# Altium footprint library QFN.PcbLib: 27 footprints (part 1 of 2)
Each footprint in its own frame and in the unit in brackets; x right, y up, seen from the top. Pads: shape width x height; smd on the part's side, far side on the other; paste and mask are expansions set on the pad; w line width, h text height; cw(c..) or ccw(c..) is an arc to the next point about the centre after c.
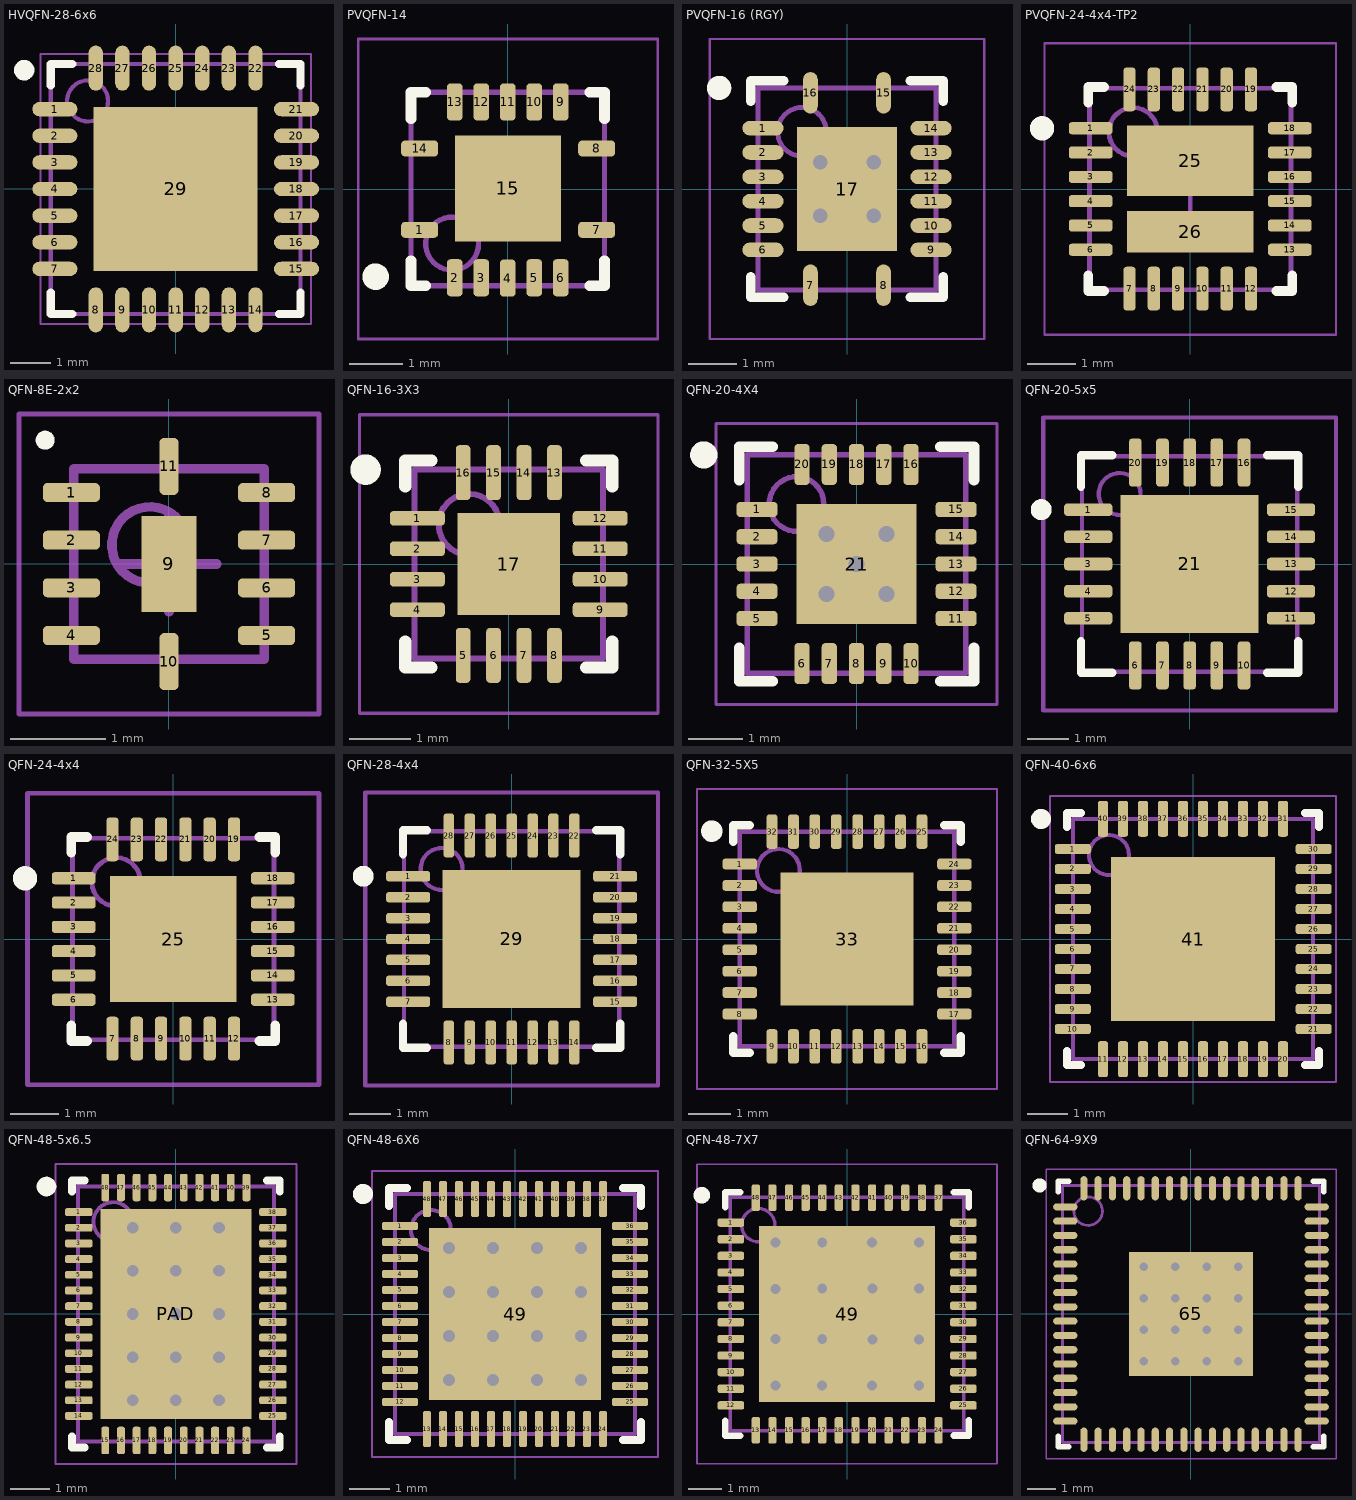
[diagram p0: the footprints below, top view; thin cyan lines are the x and y axes]

## HVQFN-28-6x6 [mm] "HVQFN28, 28-Leads, Body 6,00x6,00mm, Pitch 0,65mm, Thermal Pad 4,00x4,00mm, IPC Medium Density"
height 1
pads (29):
  oval 1.1x0.35 smd mask+0.05: 1(-2.95,1.95) 2(-2.95,1.3) 3(-2.95,0.65) 4(-2.95,0) 5(-2.95,-0.65) 6(-2.95,-1.3) 7(-2.95,-1.95) 15(2.95,-1.95) 16(2.95,-1.3) 17(2.95,-0.65) 18(2.95,0) 19(2.95,0.65) 20(2.95,1.3) 21(2.95,1.95)
  oval 0.35x1.1 smd mask+0.05: 8(-1.95,-2.95) 9(-1.3,-2.95) 10(-0.65,-2.95) 11(0,-2.95) 12(0.65,-2.95) 13(1.3,-2.95) 14(1.95,-2.95) 22(1.95,2.95) 23(1.3,2.95) 24(0.65,2.95) 25(0,2.95) 26(-0.65,2.95) 27(-1.3,2.95) 28(-1.95,2.95)
  rect 4x4 smd mask+0.05: 29(0,0)
Top Overlay:
  circle w0.25: c-3.7,2.9 r0.125
  lines w0.2: -3.05,-2.525 -3.05,-3.05 -2.525,-3.05 ; -3.05,2.525 -3.05,3.05 -2.525,3.05 ; 2.525,-3.05 3.05,-3.05 3.05,-2.525 ; 2.525,3.05 3.05,3.05 3.05,2.525
Mechanical 13:
  circle w0.1: c-2.15,2.15 r0.5
  lines w0.1: -3.05,-3.05 3.05,-3.05 3.05,3.05 -3.05,3.05 -3.05,-3.05
Mechanical 15:
  lines w0.05: -3.3,-3.3 3.3,-3.3 3.3,3.3 -3.3,3.3 -3.3,-3.3
  lines w0.1: -0.5,0 0.5,0 ; 0,-0.5 0,0.5
3D body "HVQFN28-6x6.step": height 1, standoff 0, extent -3.05,-3.05 3.05,3.05

## PVQFN-14 [mm] "PVQFN, 14-Leads, Body 3,50x3,50mm, Pitch 0,50mm, Thermal Pad 2,00x2,00mm, IPC Medium Density"
height 1
pads (15):
  rrect50% 0.7x0.3 smd mask+0.05: 1(-1.664,-0.771) 7(1.678,-0.771) 8(1.678,0.765) 14(-1.662,0.765)
  rrect50% 0.3x0.7 smd mask+0.05: 2(-1,-1.675) 3(-0.5,-1.675) 4(0,-1.681) 5(0.5,-1.675) 6(1,-1.675) 9(1,1.643) 10(0.5,1.643) 11(0,1.643) 12(-0.5,1.643) 13(-1,1.643)
  rect 2x2 smd mask+0.05: 15(0.001,0.014)
Top Overlay:
  circle w0.25: c-2.492,-1.654 r0.125
  lines w0.2: -1.825,-1.357 -1.825,-1.825 -1.55,-1.825 ; -1.825,1.323 -1.825,1.825 -1.55,1.825 ; 1.55,-1.825 1.825,-1.825 1.825,-1.357 ; 1.55,1.825 1.825,1.825 1.825,1.323
Mechanical 13:
  circle w0.1: c-1.05,-1.03 r0.5
  lines w0.1: -1.825,-1.825 -1.825,1.825 1.825,1.825 1.825,-1.825 -1.825,-1.825
Mechanical 15:
  lines w0.05: -2.82,-2.83 -2.82,2.83 2.83,2.83 2.83,-2.83 -2.82,-2.83
3D body "PVQFN-14.step": height 1, standoff 0, extent -1.825,-1.825 1.825,1.825

## PVQFN-16 (RGY) [mm] "PVQFN, 16-Leads, Body 3.50x4.00mm, Pitch 1.50mm/0.50mm, Thermal Pad 2.05x2.55mm, IPC Medium Density"
height 1
pads (17):
  oval 0.85x0.3 smd mask+0.05: 1(-1.725,1.25) 2(-1.725,0.75) 3(-1.725,0.25) 4(-1.725,-0.25) 5(-1.725,-0.75) 6(-1.725,-1.25) 9(1.725,-1.25) 10(1.725,-0.75) 11(1.725,-0.25) 12(1.725,0.25) 13(1.725,0.75) 14(1.725,1.25)
  oval 0.3x0.85 smd mask+0.05: 7(-0.75,-1.975) 8(0.75,-1.975) 15(0.75,1.975) 16(-0.75,1.975)
  rect 2.05x2.55 smd mask+0.05: 17(0,0)
via 0.55,-0.55 diameter 0.7 hole 0.3
via -0.55,-0.55 diameter 0.7 hole 0.3
via 0.55,0.55 diameter 0.7 hole 0.3
via -0.55,0.55 diameter 0.7 hole 0.3
Top Overlay:
  circle w0.25: c-2.625,2.075 r0.125
  lines w0.2: -1.975,-1.8 -1.975,-2.225 -1.3,-2.225 ; -1.975,1.8 -1.975,2.225 -1.3,2.225 ; 1.3,-2.225 1.975,-2.225 1.975,-1.8 ; 1.3,2.225 1.975,2.225 1.975,1.8
Mechanical 13:
  circle w0.1: c-0.925,1.175 r0.5
  lines w0.1: -1.825,-2.075 1.825,-2.075 1.825,2.075 -1.825,2.075 -1.825,-2.075
Mechanical 15:
  lines w0.05: -2.82,-3.08 2.82,-3.08 2.82,3.08 -2.82,3.08 -2.82,-3.08
  lines w0.1: -0.5,0 0.5,0 ; 0,-0.5 0,0.5
3D body "PVQFN-16.step": height 1, standoff 0, extent -1.875,-2.125 1.875,2.125

## PVQFN-24-4x4-TP2 [mm] "24-Pin Plastic Quad Flat No-Lead 0.5 mm Pitch, IPC Low Density, Two thermal pads"
height 0.8
pads (26):
  rrect50% 0.9x0.25 smd mask+0.05: 1(-2.05,1.25) 2(-2.05,0.75) 3(-2.05,0.25) 4(-2.05,-0.25) 5(-2.05,-0.75) 6(-2.05,-1.25) 13(2.05,-1.25) 14(2.05,-0.75) 15(2.05,-0.25) 16(2.05,0.25) 17(2.05,0.75) 18(2.05,1.25)
  rrect50% 0.25x0.9 smd mask+0.05: 7(-1.25,-2.05) 8(-0.75,-2.05) 9(-0.25,-2.05) 10(0.25,-2.05) 11(0.75,-2.05) 12(1.25,-2.05) 19(1.25,2.05) 20(0.75,2.05) 21(0.25,2.05) 22(-0.25,2.05) 23(-0.75,2.05) 24(-1.25,2.05)
  rect 2.6x1.45 smd mask+0.05: 25(0,0.578)
  rect 2.6x0.85 smd mask+0.05: 26(-0.002,-0.881)
Top Overlay:
  circle w0.25: c-3.05,1.25 r0.125
  lines w0.2: -2.1,-1.775 -2.1,-2.1 -1.775,-2.1 ; -2.1,1.775 -2.1,2.1 -1.775,2.1 ; 1.775,-2.1 2.1,-2.1 2.1,-1.775 ; 1.775,2.1 2.1,2.1 2.1,1.775
Mechanical 13:
  circle w0.1: c-1.175,1.175 r0.5
  lines w0.1: -2.075,-2.075 2.075,-2.075 2.075,2.075 -2.075,2.075 -2.075,-2.075
Mechanical 15:
  lines w0.05: -3,-3 3,-3 3,3 -3,3 -3,-3
  lines w0.1: -0.5,0 0.5,0 ; 0,-0.5 0,0.5
3D body "User Library-QFN24-0_5.STEP": height 1, standoff 0, extent -2,-2 2,2

## QFN-8E-2x2 [mm] "QFN, 8-Leads, Body 2.00x2.00mm, Pitch 0.50mm, Thermal Pad 0.58x1.01mm, IPC Medium Density"
height 0.9
pads (11):
  rrect50% 0.6x0.2 smd mask+0.05: 1(-1.025,0.75) 2(-1.025,0.25) 3(-1.025,-0.25) 4(-1.025,-0.75) 5(1.025,-0.75) 6(1.025,-0.25) 7(1.025,0.25) 8(1.025,0.75)
  rect 0.58x1.01 smd mask+0.05: 9(0,0)
  rrect50% 0.2x0.6 smd mask+0.05: 10(0,-1.025) 11(0,1.025)
Top Overlay:
  circle w0.1: c-1.3,1.3 r0.05
Mechanical 13:
  circle w0.1: c-0.2,0.2 r0.4
  lines w0.1: -1,-1 1,-1 1,1 -1,1 -1,-1
Mechanical 15:
  lines w0.05: -1.575,-1.575 1.575,-1.575 1.575,1.575 -1.575,1.575 -1.575,-1.575
  lines w0.1: -0.5,0 0.5,0 ; 0,-0.5 0,0.5
3D body "QFN-8E-2x2.step": height 0.9, standoff 0, extent -1.01,-1.01 1.01,1.01

## QFN-16-3X3 [mm] "QFN, 16-Leads, Body 3,00x3,00mm, Pitch 0,50mm, Thermal Pad 1,68x1,68mm, IPC Low Density"
height 1
pads (17):
  rrect50% 0.9x0.24 smd mask+0.05: 1(-1.5,0.75) 2(-1.5,0.25) 3(-1.5,-0.25) 4(-1.5,-0.75) 9(1.5,-0.75) 10(1.5,-0.25) 11(1.5,0.25) 12(1.5,0.75)
  rrect50% 0.24x0.9 smd mask+0.05: 5(-0.75,-1.5) 6(-0.25,-1.5) 7(0.25,-1.5) 8(0.75,-1.5) 13(0.75,1.5) 14(0.25,1.5) 15(-0.25,1.5) 16(-0.75,1.5)
  rect 1.68x1.68 smd mask+0.05: 17(0,0)
Top Overlay:
  circle w0.25: c-2.35,1.55 r0.125
  lines w0.2: -1.7,-1.27 -1.7,-1.7 -1.27,-1.7 ; -1.7,1.27 -1.7,1.7 -1.27,1.7 ; 1.27,-1.7 1.7,-1.7 1.7,-1.27 ; 1.27,1.7 1.7,1.7 1.7,1.27
Mechanical 13:
  circle w0.1: c-0.65,0.65 r0.5
  lines w0.1: -1.55,-1.55 1.55,-1.55 1.55,1.55 -1.55,1.55 -1.55,-1.55
Mechanical 15:
  lines w0.05: -2.45,-2.45 2.45,-2.45 2.45,2.45 -2.45,2.45 -2.45,-2.45
  lines w0.1: -0.5,0 0.5,0 ; 0,-0.5 0,0.5
3D body "QFN-16-3X3_1.step": height 1, standoff 0, extent -1.63,-1.63 1.63,1.63

## QFN-20-4X4 [mm] "QFN, 20-Leads, Body 4.00x4.00mm, Pitch 0.50mm, Thermal Pad 2.20x2.20mm, IPC Medium Density"
height 0.9
pads (21):
  rrect50% 0.75x0.28 smd mask+0.05: 1(-1.825,1) 2(-1.825,0.5) 3(-1.825,0) 4(-1.825,-0.5) 5(-1.825,-1) 11(1.825,-1) 12(1.825,-0.5) 13(1.825,0) 14(1.825,0.5) 15(1.825,1)
  rrect50% 0.28x0.75 smd mask+0.05: 6(-1,-1.825) 7(-0.5,-1.825) 8(0,-1.825) 9(0.5,-1.825) 10(1,-1.825) 16(1,1.825) 17(0.5,1.825) 18(0,1.825) 19(-0.5,1.825) 20(-1,1.825)
  rect 2.2x2.2 smd mask+0.05: 21(0,0)
via 0,0 diameter 0.6 hole 0.3
via 0.55,-0.55 diameter 0.6 hole 0.3
via -0.55,-0.55 diameter 0.6 hole 0.3
via 0.55,0.55 diameter 0.6 hole 0.3
via -0.55,0.55 diameter 0.6 hole 0.3
Top Overlay:
  circle w0.25: c-2.8,2 r0.125
  lines w0.2: -2.15,-1.54 -2.15,-2.15 -1.54,-2.15 ; -2.15,1.54 -2.15,2.15 -1.54,2.15 ; 1.54,-2.15 2.15,-2.15 2.15,-1.54 ; 1.54,2.15 2.15,2.15 2.15,1.54
Mechanical 13:
  circle w0.1: c-1.1,1.1 r0.5
  lines w0.1: -2,-2 -2,2 2,2 2,-2 -2,-2
Mechanical 15:
  lines w0.05: -2.575,-2.575 -2.575,2.575 2.575,2.575 2.575,-2.575 -2.575,-2.575
  lines w0.1: -0.5,0 0.5,0 ; 0,-0.5 0,0.5
3D body "QFN-20-4X4.step": height 0.9, standoff 0, extent -2.05,-2.05 2.05,2.05

## QFN-20-5x5 [mm] "20-Pin Plastic Quad Flat No-Lead 0.65 mm Pitch, IPC Low Density"
height 1
pads (21):
  rrect50% 1.15x0.3 smd mask+0.05: 1(-2.425,1.3) 2(-2.425,0.65) 3(-2.425,0) 4(-2.425,-0.65) 5(-2.425,-1.3) 11(2.425,-1.3) 12(2.425,-0.65) 13(2.425,0) 14(2.425,0.65) 15(2.425,1.3)
  rrect50% 0.3x1.15 smd mask+0.05: 6(-1.3,-2.425) 7(-0.65,-2.425) 8(0,-2.425) 9(0.65,-2.425) 10(1.3,-2.425) 16(1.3,2.425) 17(0.65,2.425) 18(0,2.425) 19(-0.65,2.425) 20(-1.3,2.425)
  rect 3.3x3.3 smd mask+0.05: 21(0,0)
Top Overlay:
  circle w0.25: c-3.55,1.3 r0.125
  lines w0.2: -2.6,-1.85 -2.6,-2.6 -1.85,-2.6 ; -2.6,1.85 -2.6,2.6 -1.85,2.6 ; 1.85,-2.6 2.6,-2.6 2.6,-1.85 ; 1.85,2.6 2.6,2.6 2.6,1.85
Mechanical 13:
  circle w0.1: c-1.675,1.675 r0.5
  lines w0.1: -2.575,-2.575 -2.575,2.575 2.575,2.575 2.575,-2.575 -2.575,-2.575
Mechanical 15:
  lines w0.1: -0.5,0 0.5,0 ; 0,-0.5 0,0.5 ; -3.5,-3.5 -3.5,3.5 3.5,3.5 3.5,-3.5 -3.5,-3.5
3D body "User Library-QFN-20 5x5x0_9mm.step": height 0.89, standoff -0.01, extent -2.51,-2.51 2.51,2.51

## QFN-24-4x4 [mm] "24-Pin Plastic Quad Flat No-Lead 0.5 mm Pitch, IPC Low Density"
height 0.8
pads (25):
  rrect50% 0.9x0.25 smd mask+0.05: 1(-2.05,1.25) 2(-2.05,0.75) 3(-2.05,0.25) 4(-2.05,-0.25) 5(-2.05,-0.75) 6(-2.05,-1.25) 13(2.05,-1.25) 14(2.05,-0.75) 15(2.05,-0.25) 16(2.05,0.25) 17(2.05,0.75) 18(2.05,1.25)
  rrect50% 0.25x0.9 smd mask+0.05: 7(-1.25,-2.05) 8(-0.75,-2.05) 9(-0.25,-2.05) 10(0.25,-2.05) 11(0.75,-2.05) 12(1.25,-2.05) 19(1.25,2.05) 20(0.75,2.05) 21(0.25,2.05) 22(-0.25,2.05) 23(-0.75,2.05) 24(-1.25,2.05)
  rect 2.6x2.6 smd mask+0.05: 25(0,0)
Top Overlay:
  circle w0.25: c-3.05,1.25 r0.125
  lines w0.2: -2.1,-1.775 -2.1,-2.1 -1.775,-2.1 ; -2.1,1.775 -2.1,2.1 -1.775,2.1 ; 1.775,-2.1 2.1,-2.1 2.1,-1.775 ; 1.775,2.1 2.1,2.1 2.1,1.775
Mechanical 13:
  circle w0.1: c-1.175,1.175 r0.5
  lines w0.1: -2.075,-2.075 2.075,-2.075 2.075,2.075 -2.075,2.075 -2.075,-2.075
Mechanical 15:
  lines w0.1: -0.5,0 0.5,0 ; 0,-0.5 0,0.5 ; -3,-3 3,-3 3,3 -3,3 -3,-3
3D body "User Library-QFN24-0_5.STEP": height 1, standoff 0, extent -2,-2 2,2

## QFN-28-4x4 [mm] "28-Pin Plastic Quad Flat No-Lead 0.5 mm Pitch, IPC Low Density"
height 1
pads (29):
  rrect50% 1.05x0.25 smd mask+0.05: 1(-2.475,1.5) 2(-2.475,1) 3(-2.475,0.5) 4(-2.475,0) 5(-2.475,-0.5) 6(-2.475,-1) 7(-2.475,-1.5) 15(2.475,-1.5) 16(2.475,-1) 17(2.475,-0.5) 18(2.475,0) 19(2.475,0.5) 20(2.475,1) 21(2.475,1.5)
  rrect50% 0.25x1.05 smd mask+0.05: 8(-1.5,-2.475) 9(-1,-2.475) 10(-0.5,-2.475) 11(0,-2.475) 12(0.5,-2.475) 13(1,-2.475) 14(1.5,-2.475) 22(1.5,2.475) 23(1,2.475) 24(0.5,2.475) 25(0,2.475) 26(-0.5,2.475) 27(-1,2.475) 28(-1.5,2.475)
  rect 3.3x3.3 smd mask+0.05: 29(0,0)
Top Overlay:
  circle w0.25: c-3.55,1.5 r0.125
  lines w0.2: -2.6,-2.025 -2.6,-2.6 -2.025,-2.6 ; -2.6,2.025 -2.6,2.6 -2.025,2.6 ; 2.025,-2.6 2.6,-2.6 2.6,-2.025 ; 2.025,2.6 2.6,2.6 2.6,2.025
Mechanical 13:
  circle w0.1: c-1.675,1.675 r0.5
  lines w0.1: -2.575,-2.575 -2.575,2.575 2.575,2.575 2.575,-2.575 -2.575,-2.575
Mechanical 15:
  lines w0.1: -0.5,0 0.5,0 ; 0,-0.5 0,0.5 ; -3.5,-3.5 -3.5,3.5 3.5,3.5 3.5,-3.5 -3.5,-3.5
3D body "User Library-QFN28-0_5.STEP": height 1, standoff 0, extent -2.5,-2.5 2.5,2.5

## QFN-32-5X5 [mm]
height 0.9
pads (33):
  rrect50% 0.8x0.25 smd mask+0.05: 1(-2.502,1.75) 2(-2.502,1.25) 3(-2.502,0.75) 4(-2.502,0.25) 5(-2.502,-0.25) 6(-2.502,-0.75) 7(-2.502,-1.25) 8(-2.502,-1.75) 17(2.505,-1.75) 18(2.505,-1.25) 19(2.505,-0.75) 20(2.505,-0.25) 21(2.505,0.25) 22(2.505,0.75) 23(2.505,1.25) 24(2.505,1.75)
  rrect50% 0.25x0.8 smd mask+0.05: 9(-1.75,-2.505) 10(-1.25,-2.505) 11(-0.75,-2.505) 12(-0.25,-2.505) 13(0.25,-2.505) 14(0.75,-2.505) 15(1.25,-2.505) 16(1.75,-2.505) 25(1.75,2.505) 26(1.25,2.505) 27(0.75,2.505) 28(0.25,2.505) 29(-0.25,2.505) 30(-0.75,2.505) 31(-1.25,2.505) 32(-1.75,2.505)
  rect 3.1x3.1 smd mask+0.05: 33(0,0)
Top Overlay:
  circle w0.25: c-3.155,2.517 r0.125
  lines w0.2: -2.65,-2.275 -2.65,-2.65 -2.275,-2.65 ; -2.65,2.275 -2.65,2.65 -2.275,2.65 ; 2.275,-2.65 2.65,-2.65 2.65,-2.275 ; 2.275,2.65 2.65,2.65 2.65,2.275
Mechanical 13:
  circle w0.1: c-1.6,1.6 r0.5
  lines w0.1: -2.5,-2.5 -2.5,2.5 2.5,2.5 2.5,-2.5 -2.5,-2.5
Mechanical 15:
  lines w0.05: -3.5,-3.5 -3.5,3.5 3.5,3.5 3.5,-3.5 -3.5,-3.5
  lines w0.1: -0.5,0 0.5,0 ; 0,-0.5 0,0.5
3D body "QFN-32-5X5.step": height 0.9, standoff 0, extent -2.51,-2.51 2.51,2.51

## QFN-40-6x6 [mm] "QFN, 40-Leads, Body 6.00x6.00mm, Pitch 0.50mm, Thermal Pad 4.10x4.10mm, IPC Medium Density"
height 0.9
pads (41):
  rrect50% 0.9x0.25 smd mask+0.05: 1(-3.005,2.25) 2(-3.005,1.75) 3(-3.005,1.25) 4(-3.005,0.75) 5(-3.005,0.25) 6(-3.005,-0.25) 7(-3.005,-0.75) 8(-3.005,-1.25) 9(-3.005,-1.75) 10(-3.005,-2.25) 21(3.015,-2.25) 22(3.015,-1.75) 23(3.015,-1.25) 24(3.015,-0.75) 25(3.015,-0.25) 26(3.015,0.25) 27(3.015,0.75) 28(3.015,1.25) 29(3.015,1.75) 30(3.015,2.25)
  rrect50% 0.25x0.9 smd mask+0.05: 11(-2.25,-3.005) 12(-1.75,-3.005) 13(-1.25,-3.005) 14(-0.75,-3.005) 15(-0.25,-3.005) 16(0.25,-3.005) 17(0.75,-3.005) 18(1.25,-3.005) 19(1.75,-3.005) 20(2.25,-3.005) 31(2.25,3.006) 32(1.75,3.006) 33(1.25,3.006) 34(0.75,3.006) 35(0.25,3.006) 36(-0.25,3.006) 37(-0.75,3.006) 38(-1.25,3.006) 39(-1.75,3.006) 40(-2.25,3.006)
  rect 4.1x4.1 smd mask+0.05: 41(0,0)
Top Overlay:
  circle w0.25: c-3.8,3 r0.125
  lines w0.2: -3.15,-2.8 -3.15,-3.15 -2.8,-3.15 ; -3.15,2.8 -3.15,3.15 -2.8,3.15 ; 2.8,-3.15 3.15,-3.15 3.15,-2.8 ; 2.8,3.15 3.15,3.15 3.15,2.8
Mechanical 13:
  circle w0.1: c-2.1,2.1 r0.5
  lines w0.1: -3,-3 -3,3 3,3 3,-3 -3,-3
Mechanical 15:
  lines w0.05: -3.575,-3.575 -3.575,3.575 3.575,3.575 3.575,-3.575 -3.575,-3.575
  lines w0.1: -0.5,0 0.5,0 ; 0,-0.5 0,0.5
3D body "QFN-40-6x6.step": height 0.9, standoff 0, extent -3.01,-3.01 3.01,3.01

## QFN-48-5x6.5 [mm] "QFN, 48-Leads, Body 5.00x6.50mm, Pitch 0.40mm, Thermal Pad 3.85x5.35mm, IPC Medium Density"
height 0.85
pads (49):
  rrect50% 0.7x0.2 smd mask+0.05: 1(-2.475,2.6) 2(-2.475,2.2) 3(-2.475,1.8) 4(-2.475,1.4) 5(-2.475,1) 6(-2.475,0.6) 7(-2.475,0.2) 8(-2.475,-0.2) 9(-2.475,-0.6) 10(-2.475,-1) 11(-2.475,-1.4) 12(-2.475,-1.8) 13(-2.475,-2.2) 14(-2.475,-2.6) 25(2.475,-2.6) 26(2.475,-2.2) 27(2.475,-1.8) 28(2.475,-1.4) 29(2.475,-1) 30(2.475,-0.6) 31(2.475,-0.2) 32(2.475,0.2) 33(2.475,0.6) 34(2.475,1) 35(2.475,1.4) 36(2.475,1.8) 37(2.475,2.2) 38(2.475,2.6)
  rrect50% 0.2x0.7 smd mask+0.05: 15(-1.8,-3.225) 16(-1.4,-3.225) 17(-1,-3.225) 18(-0.6,-3.225) 19(-0.2,-3.225) 20(0.2,-3.225) 21(0.6,-3.225) 22(1,-3.225) 23(1.4,-3.225) 24(1.8,-3.225) 39(1.8,3.225) 40(1.4,3.225) 41(1,3.225) 42(0.6,3.225) 43(0.2,3.225) 44(-0.2,3.225) 45(-0.6,3.225) 46(-1,3.225) 47(-1.4,3.225) 48(-1.8,3.225)
  rect 3.85x5.35 smd mask+0.05: PAD(0,0)
via 1.1,-2.2 diameter 0.8 hole 0.3
via 0,-2.2 diameter 0.8 hole 0.3
via -1.1,-2.2 diameter 0.8 hole 0.3
via 1.1,-1.1 diameter 0.8 hole 0.3
via 0,-1.1 diameter 0.8 hole 0.3
via -1.1,-1.1 diameter 0.8 hole 0.3
via 1.1,0 diameter 0.8 hole 0.3
via -1.1,0 diameter 0.8 hole 0.3
via 1.1,1.1 diameter 0.8 hole 0.3
via 0,1.1 diameter 0.8 hole 0.3
via -1.1,1.1 diameter 0.8 hole 0.3
via 1.1,2.2 diameter 0.8 hole 0.3
via 0,2.2 diameter 0.8 hole 0.3
via -1.1,2.2 diameter 0.8 hole 0.3
via 0,0 diameter 0.8 hole 0.3
Top Overlay:
  circle w0.25: c-3.3,3.25 r0.125
  lines w0.2: -2.65,-3.125 -2.65,-3.4 -2.325,-3.4 ; -2.65,3.125 -2.65,3.4 -2.325,3.4 ; 2.325,-3.4 2.65,-3.4 2.65,-3.125 ; 2.325,3.4 2.65,3.4 2.65,3.125
Mechanical 13:
  circle w0.1: c-1.6,2.35 r0.5
  lines w0.1: -2.5,-3.25 2.5,-3.25 2.5,3.25 -2.5,3.25 -2.5,-3.25
Mechanical 15:
  lines w0.05: -3.075,-3.825 3.075,-3.825 3.075,3.825 -3.075,3.825 -3.075,-3.825
  lines w0.1: -0.5,0 0.5,0 ; 0,-0.5 0,0.5
3D body "QFN-48-5x6.5.step": height 0.85, standoff 0, extent -2.51,-3.26 2.51,3.26

## QFN-48-6X6 [mm] "QFN, 48-Leads, Body 6,00x6,00mm, Pitch 0,40mm, Thermal Pad 4,30x4,30mm, IPC Medium Density"
height 0.85
pads (49):
  rrect50% 0.9x0.2 smd mask+0.05: 1(-2.875,2.2) 2(-2.875,1.8) 3(-2.875,1.4) 4(-2.875,1) 5(-2.875,0.6) 6(-2.875,0.2) 7(-2.875,-0.2) 8(-2.875,-0.6) 9(-2.875,-1) 10(-2.875,-1.4) 11(-2.875,-1.8) 12(-2.875,-2.2) 25(2.875,-2.2) 26(2.875,-1.8) 27(2.875,-1.4) 28(2.875,-1) 29(2.875,-0.6) 30(2.875,-0.2) 31(2.875,0.2) 32(2.875,0.6) 33(2.875,1) 34(2.875,1.4) 35(2.875,1.8) 36(2.875,2.2)
  rrect50% 0.2x0.9 smd mask+0.05: 13(-2.2,-2.875) 14(-1.8,-2.875) 15(-1.4,-2.875) 16(-1,-2.875) 17(-0.6,-2.875) 18(-0.2,-2.875) 19(0.2,-2.875) 20(0.6,-2.875) 21(1,-2.875) 22(1.4,-2.875) 23(1.8,-2.875) 24(2.2,-2.875) 37(2.2,2.875) 38(1.8,2.875) 39(1.4,2.875) 40(1,2.875) 41(0.6,2.875) 42(0.2,2.875) 43(-0.2,2.875) 44(-0.6,2.875) 45(-1,2.875) 46(-1.4,2.875) 47(-1.8,2.875) 48(-2.2,2.875)
  rect 4.3x4.3 smd mask+0.05: 49(0,0)
via 1.65,-1.65 diameter 0.8 hole 0.3
via 0.55,-1.65 diameter 0.8 hole 0.3
via -0.55,-1.65 diameter 0.8 hole 0.3
via -1.65,-1.65 diameter 0.8 hole 0.3
via 1.65,-0.55 diameter 0.8 hole 0.3
via 0.55,-0.55 diameter 0.8 hole 0.3
via -0.55,-0.55 diameter 0.8 hole 0.3
via -1.65,-0.55 diameter 0.8 hole 0.3
via 1.65,0.55 diameter 0.8 hole 0.3
via 0.55,0.55 diameter 0.8 hole 0.3
via -0.55,0.55 diameter 0.8 hole 0.3
via -1.65,0.55 diameter 0.8 hole 0.3
via 1.65,1.65 diameter 0.8 hole 0.3
via 0.55,1.65 diameter 0.8 hole 0.3
via -0.55,1.65 diameter 0.8 hole 0.3
via -1.65,1.65 diameter 0.8 hole 0.3
Top Overlay:
  circle w0.25: c-3.8,3 r0.125
  lines w0.2: -3.15,-2.7 -3.15,-3.15 -2.7,-3.15 ; -3.15,2.7 -3.15,3.15 -2.7,3.15 ; 2.7,-3.15 3.15,-3.15 3.15,-2.7 ; 2.7,3.15 3.15,3.15 3.15,2.7
Mechanical 13:
  circle w0.1: c-2.1,2.1 r0.5
  lines w0.1: -3,-3 3,-3 3,3 -3,3 -3,-3
Mechanical 15:
  lines w0.05: -3.575,-3.575 3.575,-3.575 3.575,3.575 -3.575,3.575 -3.575,-3.575
  lines w0.1: -0.5,0 0.5,0 ; 0,-0.5 0,0.5
3D body "QFN-48-6X6.step": height 0.85, standoff 0, extent -3.01,-3.01 3.01,3.01

## QFN-48-7X7 [mm] "QFN, 48-Leads, Body 7x7mm, Pitch 0.5mm, Thermal Pad 5.3x5.3mm, IPC Medium Density"
height 1
pads (49):
  rrect50% 0.8x0.25 smd mask+0.05: 1(-3.5,2.75) 2(-3.5,2.25) 3(-3.5,1.75) 4(-3.5,1.25) 5(-3.5,0.75) 6(-3.5,0.25) 7(-3.5,-0.25) 8(-3.5,-0.75) 9(-3.5,-1.25) 10(-3.5,-1.75) 11(-3.5,-2.25) 12(-3.5,-2.75) 25(3.5,-2.75) 26(3.5,-2.25) 27(3.5,-1.75) 28(3.5,-1.25) 29(3.5,-0.75) 30(3.5,-0.25) 31(3.5,0.25) 32(3.5,0.75) 33(3.5,1.25) 34(3.5,1.75) 35(3.5,2.25) 36(3.5,2.75)
  rrect50% 0.25x0.8 smd mask+0.05: 13(-2.75,-3.5) 14(-2.25,-3.5) 15(-1.75,-3.5) 16(-1.25,-3.5) 17(-0.75,-3.5) 18(-0.25,-3.5) 19(0.25,-3.5) 20(0.75,-3.5) 21(1.25,-3.5) 22(1.75,-3.5) 23(2.25,-3.5) 24(2.75,-3.5) 37(2.75,3.5) 38(2.25,3.5) 39(1.75,3.5) 40(1.25,3.5) 41(0.75,3.5) 42(0.25,3.5) 43(-0.25,3.5) 44(-0.75,3.5) 45(-1.25,3.5) 46(-1.75,3.5) 47(-2.25,3.5) 48(-2.75,3.5)
  rect 5.3x5.3 smd mask+0.05: 49(0,0)
via -2.159,2.159 diameter 0.7 hole 0.3
via 2.159,2.159 diameter 0.7 hole 0.3
via -0.75,2.159 diameter 0.7 hole 0.3
via 0.75,2.159 diameter 0.7 hole 0.3
via -2.159,-2.159 diameter 0.7 hole 0.3
via -2.159,0.75 diameter 0.7 hole 0.3
via -2.159,-0.75 diameter 0.7 hole 0.3
via -0.75,0.762 diameter 0.7 hole 0.3
via -0.75,-0.75 diameter 0.7 hole 0.3
via -0.762,-2.159 diameter 0.7 hole 0.3
via 0.762,0.762 diameter 0.7 hole 0.3
via 0.762,-0.762 diameter 0.7 hole 0.3
via 0.75,-2.159 diameter 0.7 hole 0.3
via 2.159,0.762 diameter 0.7 hole 0.3
via 2.159,-0.762 diameter 0.7 hole 0.3
via 2.159,-2.159 diameter 0.7 hole 0.3
Top Overlay:
  circle w0.25: c-4.375,3.575 r0.125
  lines w0.2: -3.675,-3.215 -3.675,-3.665 -3.225,-3.665 ; -3.675,3.215 -3.675,3.665 -3.225,3.665 ; 3.205,-3.655 3.655,-3.655 3.655,-3.205 ; 3.215,3.665 3.665,3.665 3.665,3.215
Mechanical 13:
  circle w0.1: c-2.675,2.675 r0.5
  lines w0.1: -3.52,-3.51 3.51,-3.51 3.51,3.51 -3.52,3.51 -3.52,-3.51
Mechanical 15:
  lines w0.05: -4.52,-4.51 4.51,-4.51 4.51,4.51 -4.52,4.51 -4.52,-4.51
  lines w0.1: -0.5,0 0.5,0 ; 0,-0.5 0,0.5
3D body "ALSRobot-QFN48 7x7.step": height 0.78, standoff -0.02, extent -3.51,-3.51 3.51,3.51

## QFN-64-9X9 [mm] "QFN, 64-Leads, Body 9,00x9,00mm, Pitch 0,50mm, Thermal Pad 4,35x4,35mm, IPC Medium Density"
height 0.9
pads (65):
  oval 0.85x0.25 smd mask+0.05: 1(-4.4,3.75) 2(-4.4,3.25) 3(-4.4,2.75) 4(-4.4,2.25) 5(-4.4,1.75) 6(-4.4,1.25) 7(-4.4,0.75) 8(-4.4,0.25) 9(-4.4,-0.25) 10(-4.4,-0.75) 11(-4.4,-1.25) 12(-4.4,-1.75) 13(-4.4,-2.25) 14(-4.4,-2.75) 15(-4.4,-3.25) 16(-4.4,-3.75) 33(4.4,-3.75) 34(4.4,-3.25) 35(4.4,-2.75) 36(4.4,-2.25) 37(4.4,-1.75) 38(4.4,-1.25) 39(4.4,-0.75) 40(4.4,-0.25) 41(4.4,0.25) 42(4.4,0.75) 43(4.4,1.25) 44(4.4,1.75) 45(4.4,2.25) 46(4.4,2.75) 47(4.4,3.25) 48(4.4,3.75)
  oval 0.25x0.85 smd mask+0.05: 17(-3.75,-4.4) 18(-3.25,-4.4) 19(-2.75,-4.4) 20(-2.25,-4.4) 21(-1.75,-4.4) 22(-1.25,-4.4) 23(-0.75,-4.4) 24(-0.25,-4.4) 25(0.25,-4.4) 26(0.75,-4.4) 27(1.25,-4.4) 28(1.75,-4.4) 29(2.25,-4.4) 30(2.75,-4.4) 31(3.25,-4.4) 32(3.75,-4.4) 49(3.75,4.4) 50(3.25,4.4) 51(2.75,4.4) 52(2.25,4.4) 53(1.75,4.4) 54(1.25,4.4) 55(0.75,4.4) 56(0.25,4.4) 57(-0.25,4.4) 58(-0.75,4.4) 59(-1.25,4.4) 60(-1.75,4.4) 61(-2.25,4.4) 62(-2.75,4.4) 63(-3.25,4.4) 64(-3.75,4.4)
  rect 4.35x4.35 smd mask+0.05: 65(0,0)
via -1.65,1.65 diameter 0.8 hole 0.3
via -0.55,1.65 diameter 0.8 hole 0.3
via 0.55,1.65 diameter 0.8 hole 0.3
via 1.65,1.65 diameter 0.8 hole 0.3
via -1.65,0.55 diameter 0.8 hole 0.3
via -0.55,0.55 diameter 0.8 hole 0.3
via 0.55,0.55 diameter 0.8 hole 0.3
via 1.65,0.55 diameter 0.8 hole 0.3
via -1.65,-0.55 diameter 0.8 hole 0.3
via -0.55,-0.55 diameter 0.8 hole 0.3
via 0.55,-0.55 diameter 0.8 hole 0.3
via 1.65,-0.55 diameter 0.8 hole 0.3
via -1.65,-1.65 diameter 0.8 hole 0.3
via -0.55,-1.65 diameter 0.8 hole 0.3
via 0.55,-1.65 diameter 0.8 hole 0.3
via 1.65,-1.65 diameter 0.8 hole 0.3
Top Overlay:
  circle w0.25: c-5.3,4.5 r0.125
  lines w0.2: -4.65,-4.275 -4.65,-4.65 -4.275,-4.65 ; -4.65,4.275 -4.65,4.65 -4.275,4.65 ; 4.275,-4.65 4.65,-4.65 4.65,-4.275 ; 4.275,4.65 4.65,4.65 4.65,4.275
Mechanical 13:
  circle w0.1: c-3.6,3.6 r0.5
  lines w0.1: -4.5,-4.5 -4.5,4.5 4.5,4.5 4.5,-4.5 -4.5,-4.5
Mechanical 15:
  lines w0.05: -5.075,-5.075 -5.075,5.075 5.075,5.075 5.075,-5.075 -5.075,-5.075
  lines w0.1: -0.5,0 0.5,0 ; 0,-0.5 0,0.5
3D body "QFN-64-9X9.step": height 0.9, standoff 0, extent -4.51,-4.51 4.51,4.51